# Altium schematic symbol library RDA5981.SCHLIB: 31 symbols
Pins are listed as number, name and electrical type; pins without a type are passive.

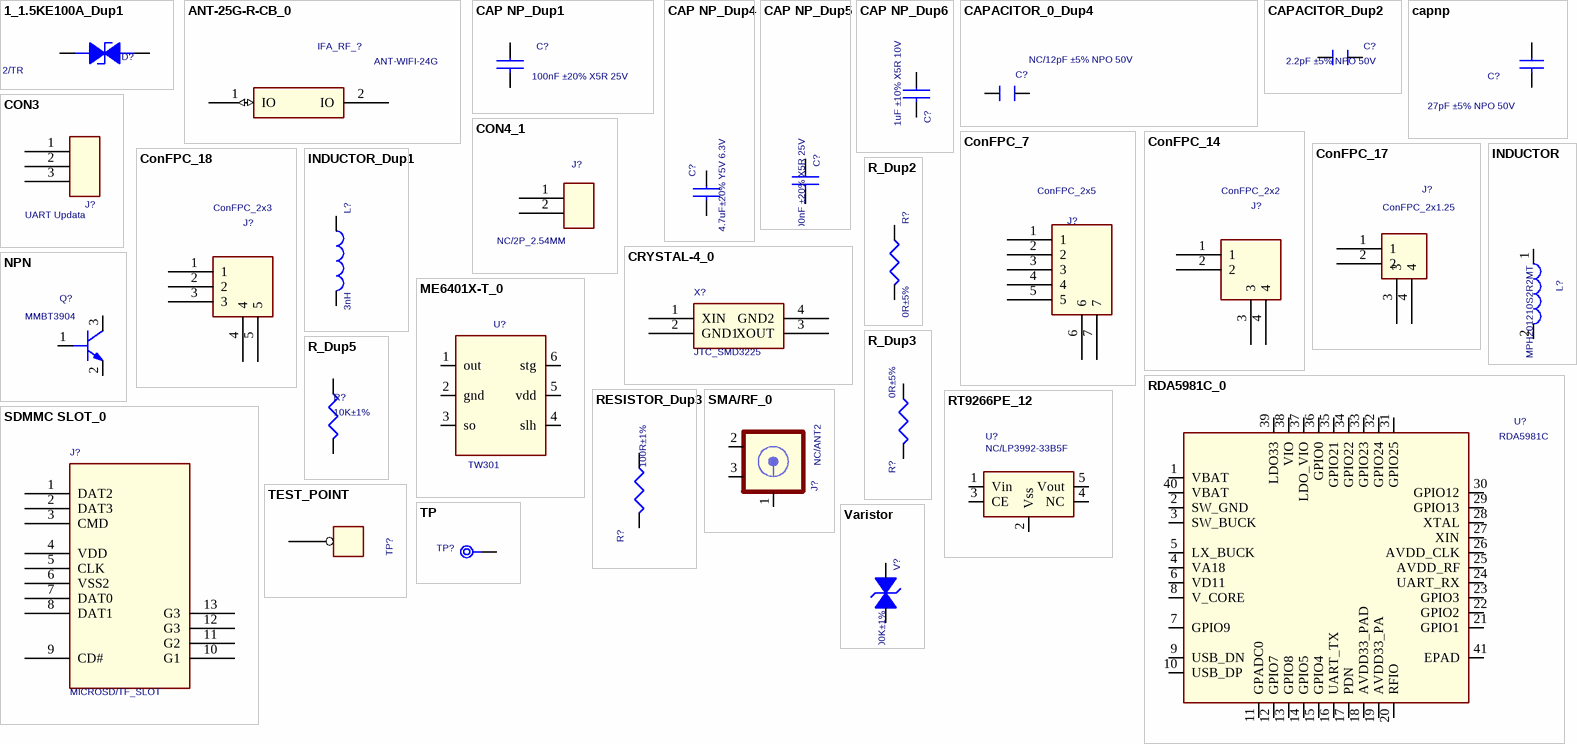
[diagram p0: symbols 1_1.5KE100A_Dup1 to Varistor]

## 1_1.5KE100A_Dup1
designator D?, comment ESD9B5V-2/TR
1ST PART DESCRIPTION: WILL ESD9B5V Bidirection ESD Protection; ROOM: TFCARD&USB&KEY
footprint ESD0402
pins: 1 ANODE, 2 CATHODE

## ANT-25G-R-CB_0
designator IFA_RF_?, comment ANT-WIFI-24G
footprint IFA_RF_1
pins: 1 IO (io), 2 IO

## CAP NP_Dup1
designator C?, comment 100nF ±20% X5R 25V
footprint C0402
pins: 1, 2

## CAP NP_Dup4
designator C?, comment 4.7uF±20% Y5V 6.3V
Assembly: C0603
footprint C0402
pins: 1, 2

## CAP NP_Dup5
designator C?, comment 100nF ±20% X5R 25V
footprint C0402
pins: 1, 2

## CAP NP_Dup6
designator C?, comment 1uF ±10% X5R 10V
footprint C0402
pins: 1, 2

## CAPACITOR_0_Dup4
designator C?, comment NC/12pF ±5% NPO 50V
PAGE: 2
footprint C0402
pins: 1, 2

## CAPACITOR_Dup2
designator C?, comment 2.2pF ±5% NPO 50V
footprint C0402
pins: 1, 2

## capnp
designator C?, comment 27pF ±5% NPO 50V
Manufacturer: VISHAY; Geometry.Height: 0.5mm
footprint C0402
pins: 1, 2

## CON3
designator J?, comment UART Updata
footprint SIP100-3P
pins: 1, 2, 3

## CON4_1
designator J?, comment NC/2P_2.54MM
footprint SIP100-2P
pins: 1, 2

## ConFPC_7
designator J?, comment ConFPC_2x5
INDEX: 6conn
footprint PL2.0-5P-SMT
pins: 1, 2, 3, 4, 5, 6, 7

## ConFPC_14
designator J?, comment ConFPC_2x2
INDEX: 6conn
footprint PL2.0-2P-SMT
pins: 1, 2, 3, 4

## ConFPC_17
designator J?, comment ConFPC_2x1.25
INDEX: 6conn
footprint SIP2-1.25MM-W
pins: 1, 2, 3, 4

## ConFPC_18
designator J?, comment ConFPC_2x3
INDEX: 6conn
footprint PL2.0-3P-SMT
pins: 1, 2, 3, 4, 5

## CRYSTAL-4_0
designator X?, comment JTC_SMD3225
Crystal 24MHz 20pF 10ppm  -30 to +85; PART NUMBER: 7M24000004; Vendor: TXC; SPREADWIN PN: U3000019A
footprint SMD_3225
pins: 1 XIN, 2 GND1 (power), 3 XOUT, 4 GND2 (power)

## INDUCTOR
designator L?, comment MPH201210S2R2MT
RoHS Power Inductor 22uH 300mA H<1.8MM,CD32
footprint L0805
pins: 1, 2

## INDUCTOR_Dup1
designator L?, comment 3nH
PART_TYPE: L42; PART_NUMBER: L42-0201S3N320ACX0
footprint L0402
pins: 1, 2

## ME6401X-T_0
designator U?, comment TW301
footprint SOT23-6
pins: 1 out, 2 gnd, 3 so, 4 slh, 5 vdd, 6 stg

## NPN
designator Q?, comment MMBT3904
footprint SOT-23
pins: 1 B, 2 E, 3 C

## R_Dup2
designator R?, comment 0R±5%
ROOM: TFCARD&USB&KEY
footprint R0402
pins: 1, 2

## R_Dup3
designator R?, comment 0R±5%
footprint R0402
pins: 1, 2

## R_Dup5
designator R?, comment 10K±1%
footprint R0402
pins: 1, 2

## RDA5981C_0
designator U?, comment RDA5981C
footprint QFN40-5X5-T1.0-RDA5981C
pins: 1 VBAT, 2 SW_GND, 3 SW_BUCK, 4 VA18, 5 LX_BUCK, 6 VD11, 7 GPIO9, 8 V_CORE, 9 USB_DN, 10 USB_DP, 11 GPADC0, 12 GPIO7, 13 GPIO8, 14 GPIO5, 15 GPIO4, 16 UART_TX, 17 PDN, 18 AVDD33_PAD, 19 AVDD33_PA, 20 RFIO, 21 GPIO1, 22 GPIO2, 23 GPIO3, 24 UART_RX, 25 AVDD_RF, 26 AVDD_CLK, 27 XIN, 28 XTAL, 29 GPIO13, 30 GPIO12, 31 GPIO25, 32 GPIO24, 33 GPIO23, 34 GPIO22, 35 GPIO21, 36 GPIO0, 37 LDO_VIO, 38 VIO, 39 LDO33, 40 VBAT, 41 EPAD

## RESISTOR_Dup3
designator R?, comment 100R±1%
ROHS CHIP RES 1K 1/16W 5%
footprint R0402
pins: 1, 2

## RT9266PE_12
designator U?, comment NC/LP3992-33B5F
footprint SOT23-6
footprint SOT23-5
pins: 1 Vin, 2 Vss, 3 CE, 4 NC, 5 Vout

## SDMMC SLOT_0
designator J?, comment MICROSD/TF_SLOT
footprint TF_CARD-AUTO-NO
pins: 1 DAT2, 2 DAT3, 3 CMD, 4 VDD, 5 CLK, 6 VSS2, 7 DAT0, 8 DAT1, 9 CD#, 10 G1 (power), 11 G2 (power), 12 G3 (power), 13 G3 (power)

## SMA/RF_0
designator J?, comment NC/ANT2
footprint SMA_RF_1_ANT_ANT2
footprint ANT
pins: 1 CENTER, 2 SHIELD1, 3 SHIELD2

## TEST_POINT
designator TP?, comment TP25RD  (value not drawn)
PAD_SM;TEST;0.025 ROUND; Part Number: G500-0000506; Type Package: SM PAD; BOM Notes: DNE; Compliance: NoData; Part Type: TEST POINT; Lifecycle: Full Production
footprint TPC
pins: 1 TP1

## TP
designator TP?, comment tp  (value not drawn)
footprint TPC
pins: 1

## Varistor
designator V?, comment 100K±1%
Mutilayer Varistor,,5.5V,10PF; Manufacturer: Inpaq; Part_Number: EB3.100NV05402A; Part_Name: Varistor
footprint ESD0402
pins: 1 I/O1, 2 I/O2